# EAGLE library part UBLOX_LEA-6 (library Ava)
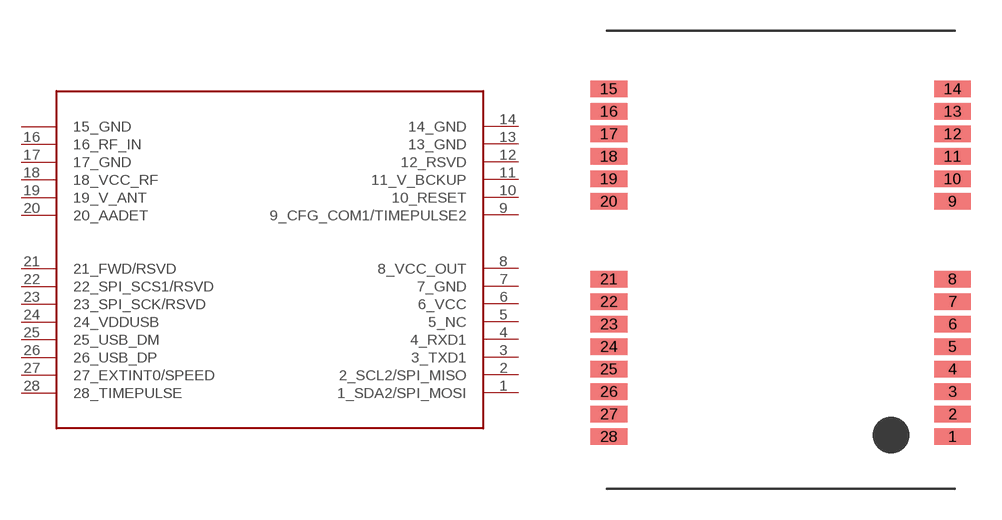
[diagram p26: symbol with the pads of UBLOX_LEA-6T; footprint UBLOX_LEA-6T]

Designator prefix -

## UBLOX_LEA-6  [UBLOX_LEA-6T]
1  1_SDA2/SPI_MOSI
2  2_SCL2/SPI_MISO
3  3_TXD1
4  4_RXD1
5  5_NC
6  6_VCC
7  7_GND
8  8_VCC_OUT
9  9_CFG_COM1/TIMEPULSE2
10  10_RESET
11  11_V_BCKUP
12  12_RSVD
13  13_GND
14  14_GND
15  15_GND
16  16_RF_IN
17  17_GND
18  18_VCC_RF
19  19_V_ANT
20  20_AADET
21  21_FWD/RSVD
22  22_SPI_SCS1/RSVD
23  23_SPI_SCK/RSVD
24  24_VDDUSB
25  25_USB_DM
26  26_USB_DP
27  27_EXTINT0/SPEED
28  28_TIMEPULSE

## Footprint UBLOX_LEA-6T (pad centres in mm)
smd 1.8 x 0.8: 1 8.4,-8.65; 2 8.4,-7.55; 3 8.4,-6.45; 4 8.4,-5.35; 5 8.4,-4.25; 6 8.4,-3.15; 7 8.4,-2.05; 8 8.4,-0.95; 9 8.4,2.85; 10 8.4,3.95; 11 8.4,5.05; 12 8.4,6.15; 13 8.4,7.25; 14 8.4,8.35; 15 -8.4,8.35; 16 -8.4,7.25; 17 -8.4,6.15; 18 -8.4,5.05; 19 -8.4,3.95; 20 -8.4,2.85; 21 -8.4,-0.95; 22 -8.4,-2.05; 23 -8.4,-3.15; 24 -8.4,-4.25; 25 -8.4,-5.35; 26 -8.4,-6.45; 27 -8.4,-7.55; 28 -8.4,-8.65